# Altium footprint library balenaFinLib.PcbLib: 75 footprints (part 1 of 5)
Each footprint in its own frame and in the unit in brackets; x right, y up, seen from the top. Pads: shape width x height; smd on the part's side, far side on the other; paste and mask are expansions set on the pad; w line width, h text height; cw(c..) or ccw(c..) is an arc to the next point about the centre after c.
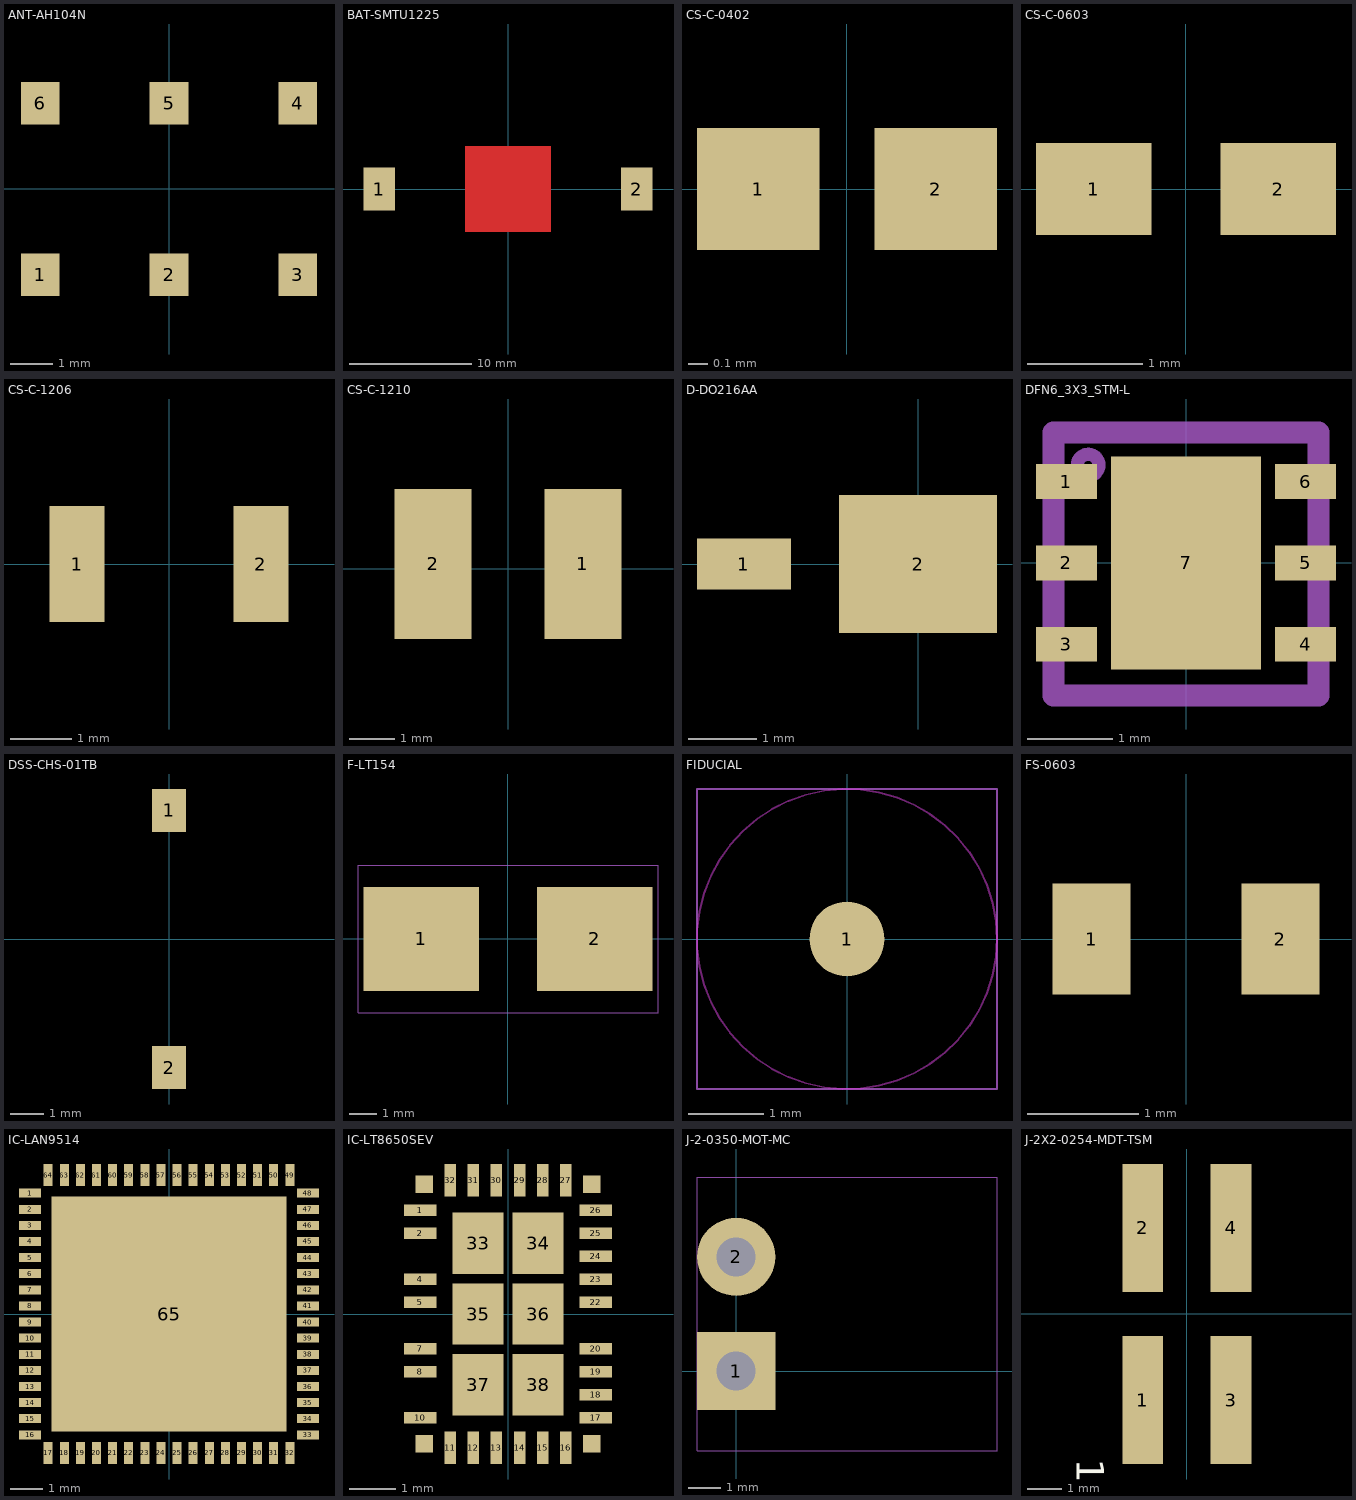
[diagram p0: the footprints below, top view; thin cyan lines are the x and y axes]

## ANT-AH104N [mm]
pads (6):
  rect 0.9x1 smd: 1(-3,-2) 2(0,-2) 3(3,-2) 4(3,2) 5(0,2) 6(-3,2)
Mechanical 46:
  text "2" at 0.08,-2 h0.2
  text "6" at -2.92,2 h0.2
  text "5" at 0.08,2 h0.2
  text "4" at 3.08,2 h0.2
  text "3" at 3.08,-2 h0.2
  text "1" at -2.92,-2 h0.2
3D body: height 3.81, standoff 0, extent -5.2,-2.5 5.2,2.5

## BAT-SMTU1225 [mm]
pads (2):
  rect 2.6x3.5 smd: 1(-10.55,0) 2(10.55,0)
Top Layer:
  region: 3.5,-3.5 3.5,3.5 -3.5,3.5 -3.5,-3.5
  region: 3.5,-3.5 3.5,3.5 -3.5,3.5 -3.5,-3.5
Mechanical 46:
  text "2" at 10.63,0 h0.2
  text "1" at -10.47,0 h0.2
3D body: height 3.81, standoff 0, extent -12.2,-6.55 12.15,6.55

## CS-C-0402 [mm]
pads (2):
  rect 0.62x0.62 smd: 1(-0.45,0) 2(0.45,0)
Mechanical 46:
  text "2" at 0.37,0 h0.2
  text "1" at -0.53,0 h0.2
3D body: height 3.81, standoff 0, extent -1.01,-0.56 1.01,0.56

## CS-C-0603 [mm]
pads (2):
  rect 1x0.8 smd: 1(-0.8,0) 2(0.8,0)
Mechanical 46:
  text "1" at -0.885,-0.1 h0.2
  text "2" at 0.765,-0.1 h0.2
3D body: height 3.81, standoff 0, extent -1.525,-0.65 1.525,0.65

## CS-C-1206 [mm]
pads (2):
  rect 0.9x1.9 smd: 1(-1.5,0) 2(1.5,0)
Mechanical 46:
  text "2" at 1.753,-0.089 h0.2
  text "1" at -1.241,-0.083 h0.2
3D body: height 3.81, standoff 0, extent -2.25,-1.15 2.25,1.15

## CS-C-1210 [mm]
pads (2):
  rect 1.7x3.3 smd: 1(1.65,0.1) 2(-1.65,0.1)
Mechanical 46:
  text "2" at -1.902,0.218 h0.2
  text "1" at 1.391,0.202 h0.2
3D body: height 3.81, standoff 0, extent -2.7,-1.75 2.7,1.95

## D-DO216AA [mm]
pads (2):
  rect 1.38x0.75 smd: 1(-2.56,0)
  rect 2.32x2.03 smd: 2(0,0)
Mechanical 46:
  text "2" at -0.08,0 h0.2
  text "1" at -2.64,0 h0.2
3D body: height 3.81, standoff 0, extent -3.45,-1.22 1.36,1.22

## DFN6_3X3_STM-L [mil]
pads (7):
  rect 28x16 smd paste+0 mask+0: 1(-55,37.4) 2(-55,0) 3(-55,-37.4) 4(55,-37.4) 5(55,0) 6(55,37.4)
  rect 69x98 smd paste+0 mask+0: 7(0,0)
Mechanical 7:
  circle w6: c-45,45 r5
  lines w10: -60.98,-60.98 60.98,-60.98 60.98,60 -60.98,60 -60.98,-60.98
Mechanical 11:
  text ".Designator" at -47.24,0 h19.68

## DSS-CHS-01TB [mm]
pads (2):
  rect 1x1.27 smd: 1(0,3.81) 2(0,-3.81)
Mechanical 11:
  text "ON" at -0.826,-4.25 h0.3
Mechanical 46:
  text "2" at 0,-3.73 h0.2
  text "1" at 0,3.89 h0.2
3D body: height 3.81, standoff 0, extent -1.45,-4.7 1.45,4.7

## F-LT154 [mm]
pads (2):
  rect 4.24x3.81 smd: 1(-3.185,0) 2(3.185,0)
Mechanical 7:
  lines w0.025: -5.5,-2.7 5.5,-2.7 5.5,2.7 -5.5,2.7 -5.5,-2.7
Mechanical 46:
  text "1" at -3.265,0 h0.2
  text "2" at 3.105,0 h0.2

## FIDUCIAL [mm]
pads (1):
  round 1 smd paste+0 mask+0: 1(0,0)
Keep-Out Layer:
  circle w0.025: c0,0 r2
Mechanical 7:
  lines w0.025: -2,-2 -2,2 2,2 2,-2 -2,-2
Mechanical 46:
  text "1" at -0.08,0 h0.2

## FS-0603 [mm]
pads (2):
  rect 0.7x1 smd: 1(-0.85,0) 2(0.85,0)
Mechanical 46:
  text "2" at 0.85,-0.08 h0.2
  text "1" at -0.85,-0.08 h0.2
3D body: height 3.81, standoff 0, extent -1.4,-0.7 1.4,0.7

## IC-LAN9514 [mm]
pads (65):
  rect 0.69x0.28 smd mask+0.12: 1(-4.31,3.75) 2(-4.31,3.25) 3(-4.31,2.75) 4(-4.31,2.25) 5(-4.31,1.75) 6(-4.31,1.25) 7(-4.31,0.75) 8(-4.31,0.25) 9(-4.31,-0.25) 10(-4.31,-0.75) 11(-4.31,-1.25) 12(-4.31,-1.75) 13(-4.31,-2.25) 14(-4.31,-2.75) 15(-4.31,-3.25) 16(-4.31,-3.75) 33(4.31,-3.75) 34(4.31,-3.25) 35(4.31,-2.75) 36(4.31,-2.25) 37(4.31,-1.75) 38(4.31,-1.25) 39(4.31,-0.75) 40(4.31,-0.25) 41(4.31,0.25) 42(4.31,0.75) 43(4.31,1.25) 44(4.31,1.75) 45(4.31,2.25) 46(4.31,2.75) 47(4.31,3.25) 48(4.31,3.75)
  rect 0.28x0.69 smd mask+0.12: 17(-3.75,-4.31) 18(-3.25,-4.31) 19(-2.75,-4.31) 20(-2.25,-4.31) 21(-1.75,-4.31) 22(-1.25,-4.31) 23(-0.75,-4.31) 24(-0.25,-4.31) 25(0.25,-4.31) 26(0.75,-4.31) 27(1.25,-4.31) 28(1.75,-4.31) 29(2.25,-4.31) 30(2.75,-4.31) 31(3.25,-4.31) 32(3.75,-4.31) 49(3.75,4.31) 50(3.25,4.31) 51(2.75,4.31) 52(2.25,4.31) 53(1.75,4.31) 54(1.25,4.31) 55(0.75,4.31) 56(0.25,4.31) 57(-0.25,4.31) 58(-0.75,4.31) 59(-1.25,4.31) 60(-1.75,4.31) 61(-2.25,4.31) 62(-2.75,4.31) 63(-3.25,4.31) 64(-3.75,4.31)
  rect 7.3x7.3 smd: 65(0,0)
Mechanical 46:
  text "45" at 4.15,2.25 h0.2
  text "35" at 4.15,-2.75 h0.2
  text "36" at 4.15,-2.25 h0.2
  text "37" at 4.15,-1.75 h0.2
  text "42" at 4.15,0.75 h0.2
  text "43" at 4.15,1.25 h0.2
  text "14" at -4.47,-2.75 h0.2
  text "13" at -4.47,-2.25 h0.2
  text "47" at 4.15,3.25 h0.2
  text "27" at 1.09,-4.31 h0.2
  text "19" at -2.91,-4.31 h0.2
  text "33" at 4.15,-3.75 h0.2
  text "46" at 4.15,2.75 h0.2
  text "39" at 4.15,-0.75 h0.2
  text "40" at 4.15,-0.25 h0.2
  text "34" at 4.15,-3.25 h0.2
  text "44" at 4.15,1.75 h0.2
  text "65" at -0.16,0 h0.2
  text "7" at -4.39,0.75 h0.2
  text "9" at -4.39,-0.25 h0.2
  text "8" at -4.39,0.25 h0.2
  text "59" at -1.41,4.31 h0.2
  text "58" at -0.91,4.31 h0.2
  text "2" at -4.39,3.25 h0.2
  text "1" at -4.39,3.75 h0.2
  text "6" at -4.39,1.25 h0.2
  text "54" at 1.09,4.31 h0.2
  text "64" at -3.91,4.31 h0.2
  text "49" at 3.59,4.31 h0.2
  text "10" at -4.47,-0.75 h0.2
  text "57" at -0.41,4.31 h0.2
  text "5" at -4.39,1.75 h0.2
  text "51" at 2.59,4.31 h0.2
  text "55" at 0.59,4.31 h0.2
  text "52" at 2.09,4.31 h0.2
  text "53" at 1.59,4.31 h0.2
  text "56" at 0.09,4.31 h0.2
  text "25" at 0.09,-4.31 h0.2
  text "26" at 0.59,-4.31 h0.2
  text "24" at -0.41,-4.31 h0.2
  text "23" at -0.91,-4.31 h0.2
  text "32" at 3.59,-4.31 h0.2
  text "31" at 3.09,-4.31 h0.2
  text "30" at 2.59,-4.31 h0.2
  text "29" at 2.09,-4.31 h0.2
  text "28" at 1.59,-4.31 h0.2
  text "17" at -3.91,-4.31 h0.2
  text "18" at -3.41,-4.31 h0.2
  text "11" at -4.47,-1.25 h0.2
  text "15" at -4.47,-3.25 h0.2
  text "38" at 4.15,-1.25 h0.2
  text "48" at 4.15,3.75 h0.2
  text "62" at -2.91,4.31 h0.2
  text "63" at -3.41,4.31 h0.2
  text "50" at 3.09,4.31 h0.2
  text "41" at 4.15,0.25 h0.2
  text "61" at -2.41,4.31 h0.2
  text "60" at -1.91,4.31 h0.2
  text "20" at -2.41,-4.31 h0.2
  text "12" at -4.47,-1.75 h0.2
  text "4" at -4.39,2.25 h0.2
  text "3" at -4.39,2.75 h0.2
  text "16" at -4.47,-3.75 h0.2
  text "22" at -1.41,-4.31 h0.2
  text "21" at -1.91,-4.31 h0.2
3D body: height 3.81, standoff 0, extent -4.9,-4.9 4.9,4.9

## IC-LT8650SEV [mm]
pads (38):
  rect 0.7x0.25 smd mask+0.13: 1(-1.9,2.25) 2(-1.9,1.75) 4(-1.9,0.75) 5(-1.9,0.25) 7(-1.9,-0.75) 8(-1.9,-1.25) 10(-1.9,-2.25) 17(1.9,-2.25) 18(1.9,-1.75) 19(1.9,-1.25) 20(1.9,-0.75) 22(1.9,0.25) 23(1.9,0.75) 24(1.9,1.25) 25(1.9,1.75) 26(1.9,2.25)
  rect 0.25x0.7 smd mask+0.13: 11(-1.25,-2.9) 12(-0.75,-2.9) 13(-0.25,-2.9) 14(0.25,-2.9) 15(0.75,-2.9) 16(1.25,-2.9) 27(1.25,2.9) 28(0.75,2.9) 29(0.25,2.9) 30(-0.25,2.9) 31(-0.75,2.9) 32(-1.25,2.9)
  rect 1.1x1.33 smd: 33(-0.65,1.53) 34(0.65,1.53) 35(-0.65,0) 36(0.65,0) 37(-0.65,-1.53) 38(0.65,-1.53)
  rect 0.375x0.375 smd mask+0.13: " "(-1.813,-2.812) " "(-1.813,2.812) " "(1.812,-2.812) " "(1.812,2.812)
Mechanical 46:
  text "17" at 1.9,-2.51 h0.2
  text "15" at 0.85,-3.06 h0.2
  text "13" at -0.15,-3.06 h0.2
  text "28" at 0.85,2.74 h0.2
  text "7" at -1.9,-0.93 h0.2
  text "8" at -1.9,-1.43 h0.2
  text "12" at -0.65,-3.06 h0.2
  text "37" at -0.65,-1.69 h0.2
  text "10" at -1.9,-2.51 h0.2
  text "2" at -1.9,1.57 h0.2
  text "33" at -0.65,1.37 h0.2
  text "35" at -0.65,-0.16 h0.2
  text "38" at 0.65,-1.69 h0.2
  text "36" at 0.65,-0.16 h0.2
  text "34" at 0.65,1.37 h0.2
  text "5" at -1.9,0.07 h0.2
  text "4" at -1.9,0.57 h0.2
  text "11" at -1.15,-3.06 h0.2
  text "31" at -0.65,2.74 h0.2
  text "24" at 1.9,0.99 h0.2
  text "18" at 1.9,-2.01 h0.2
  text "26" at 1.9,1.99 h0.2
  text "19" at 1.9,-1.51 h0.2
  text "20" at 1.9,-1.01 h0.2
  text "23" at 1.9,0.49 h0.2
  text "22" at 1.9,-0.01 h0.2
  text "1" at -1.9,2.07 h0.2
  text "25" at 1.9,1.49 h0.2
  text "30" at -0.15,2.74 h0.2
  text "29" at 0.35,2.74 h0.2
  text "27" at 1.35,2.74 h0.2
  text "32" at -1.15,2.74 h0.2
  text "16" at 1.35,-3.06 h0.2
  text "14" at 0.35,-3.06 h0.2
3D body: height 3.81, standoff 0, extent -2.25,-3.25 2.25,3.25

## J-2-0350-MOT-MC [mm]
pads (2):
  rect 2.4x2.4 hole 1.2: 1(0,0)
  round 2.4 hole 1.2: 2(0,3.5)
Mechanical 11:
  lines w0.025: -1.2,-2.45 8,-2.45 ; -1.2,-2.45 -1.2,5.95 ; -1.2,-2.45 -1.2,5.95 ; -1.2,5.95 8,5.95 ; 8,-2.45 8,5.95 ; 8,-2.45 8,5.95
Mechanical 46:
  text "1" at 0.089,0.078 h0.2
  text "2" at 0.089,3.595 h0.2
3D body: height 3.81, standoff 0, extent -1.4,-2.65 8.2,6.15

## J-2X2-0254-MDT-TSM [mm]
pads (4):
  rect 1.17x3.68 smd: 1(-1.27,-2.475) 2(-1.27,2.475) 3(1.27,-2.475) 4(1.27,2.475)
Top Overlay:
  text "1" at -3.163,-4.17 h0.8
Mechanical 11:
  text "1" at -3.5,-3.5 h0.8
Mechanical 46:
  text "3" at 1.27,-2.395 h0.2
  text "4" at 1.27,2.555 h0.2
  text "2" at -1.27,2.555 h0.2
  text "1" at -1.27,-2.395 h0.2
3D body: height 3.81, standoff 0, extent -2.74,-4.33 2.74,4.33